# EAGLE library part READER (library READER)
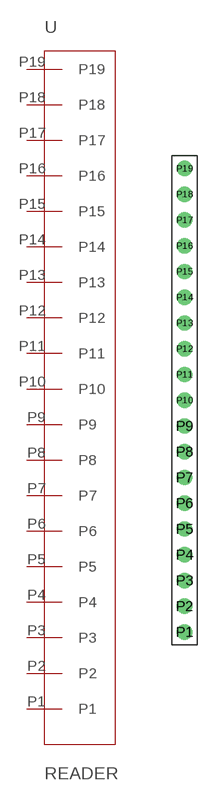
[diagram p0: symbol with the pads of READER; footprint READER]

Designator prefix -

## READER  [READER]
P1  P1
P2  P2
P3  P3
P4  P4
P5  P5
P6  P6
P7  P7
P8  P8
P9  P9
P10  P10
P11  P11
P12  P12
P13  P13
P14  P14
P15  P15
P16  P16
P17  P17
P18  P18
P19  P19

## Footprint READER (pad centres in mm)
drill 1: P1 1.27,2.54; P2 1.27,5.08; P3 1.27,7.62; P4 1.27,10.16; P5 1.27,12.7; P6 1.27,15.24; P7 1.27,17.78; P8 1.27,20.32; P9 1.27,22.86; P10 1.27,25.4; P11 1.27,27.94; P12 1.27,30.48; P13 1.27,33.02; P14 1.27,35.56; P15 1.27,38.1; P16 1.27,40.64; P17 1.27,43.18; P18 1.27,45.72; P19 1.27,48.26